# Altium integrated library Xilinx Virtex-II Pro FPGA.IntLib: 1045 symbols (part 4 of 8)
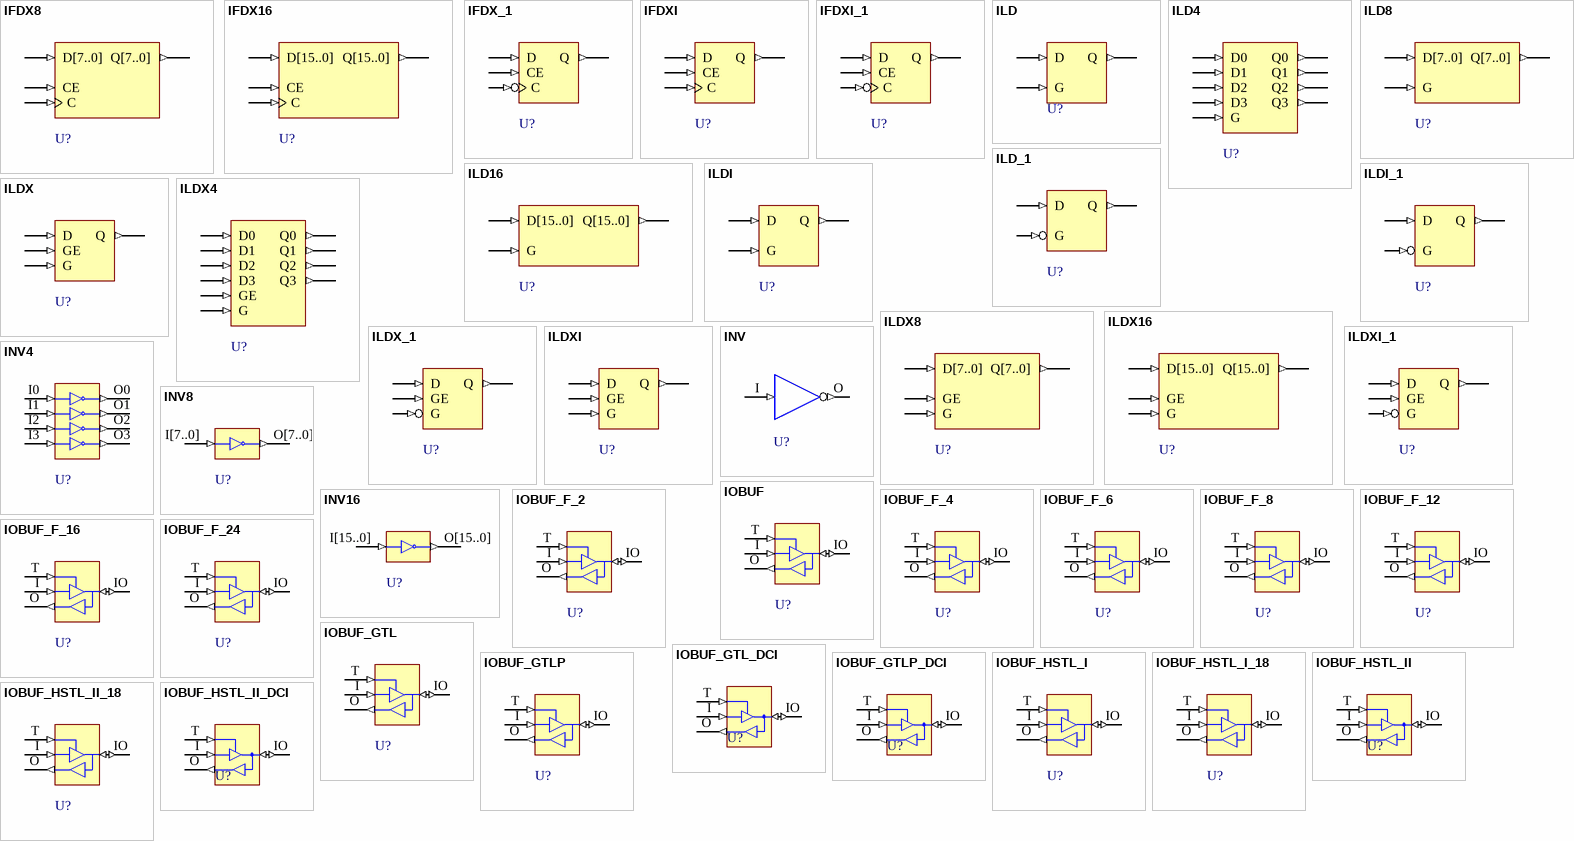
[diagram p38: symbols IFDX8 to IOBUF_HSTL_II_DCI]

## IFDXI_1
designator U?
Input D Flip-Flop with Inverted Clock and Clock Enable (Asynchronous Preset); FPGAVendor: Xilinx; Published: 15-Sep-2003; Publisher: Altium Limited; HelpURL: http://toolbox.xilinx.com/docsan/xilinx7/books/docs/lib/lib.pdf
pins: C (in), CE (in), D (in), Q (out)

## ILD
designator U?
Transparent Input Data Latch; FPGAVendor: Xilinx; Published: 15-Sep-2003; Publisher: Altium Limited; HelpURL: http://toolbox.xilinx.com/docsan/xilinx7/books/docs/lib/lib.pdf
pins: D (in), G (in), Q (out)

## ILD4
designator U?
Transparent Input Data Latch; FPGAVendor: Xilinx; Published: 15-Sep-2003; Publisher: Altium Limited; HelpURL: http://toolbox.xilinx.com/docsan/xilinx7/books/docs/lib/lib.pdf
pins: D0 (in), D1 (in), D2 (in), D3 (in), G (in), Q0 (out), Q1 (out), Q2 (out), Q3 (out)

## ILD8
designator U?
Transparent Input Data Latch; FPGAVendor: Xilinx; Published: 15-Sep-2003; Publisher: Altium Limited; HelpURL: http://toolbox.xilinx.com/docsan/xilinx7/books/docs/lib/lib.pdf
pins: D[7..0] (in), G (in), Q[7..0] (out)

## ILD16
designator U?
Transparent Input Data Latch; FPGAVendor: Xilinx; Published: 15-Sep-2003; Publisher: Altium Limited; HelpURL: http://toolbox.xilinx.com/docsan/xilinx7/books/docs/lib/lib.pdf
pins: D[15..0] (in), G (in), Q[15..0] (out)

## ILD_1
designator U?
Transparent Input Data Latch with Inverted Gate; FPGAVendor: Xilinx; Published: 15-Sep-2003; Publisher: Altium Limited; HelpURL: http://toolbox.xilinx.com/docsan/xilinx7/books/docs/lib/lib.pdf
pins: D (in), G (in), Q (out)

## ILDI
designator U?
Transparent Input Data Latch (Asynchronous Preset); FPGAVendor: Xilinx; Published: 15-Sep-2003; Publisher: Altium Limited; HelpURL: http://toolbox.xilinx.com/docsan/xilinx7/books/docs/lib/lib.pdf
pins: D (in), G (in), Q (out)

## ILDI_1
designator U?
Transparent Input Data Latch with Inverted Gate (Asynchronous Preset); FPGAVendor: Xilinx; Published: 15-Sep-2003; Publisher: Altium Limited; HelpURL: http://toolbox.xilinx.com/docsan/xilinx7/books/docs/lib/lib.pdf
pins: D (in), G (in), Q (out)

## ILDX
designator U?
Transparent Input Data Latch; FPGAVendor: Xilinx; Published: 15-Sep-2003; Publisher: Altium Limited; HelpURL: http://toolbox.xilinx.com/docsan/xilinx7/books/docs/lib/lib.pdf
pins: D (in), G (in), GE (in), Q (out)

## ILDX4
designator U?
Transparent Input Data Latch; FPGAVendor: Xilinx; Published: 15-Sep-2003; Publisher: Altium Limited; HelpURL: http://toolbox.xilinx.com/docsan/xilinx7/books/docs/lib/lib.pdf
pins: D0 (in), D1 (in), D2 (in), D3 (in), G (in), GE (in), Q0 (out), Q1 (out), Q2 (out), Q3 (out)

## ILDX8
designator U?
Transparent Input Data Latch; FPGAVendor: Xilinx; Published: 15-Sep-2003; Publisher: Altium Limited; HelpURL: http://toolbox.xilinx.com/docsan/xilinx7/books/docs/lib/lib.pdf
pins: D[7..0] (in), G (in), GE (in), Q[7..0] (out)

## ILDX16
designator U?
Transparent Input Data Latch; FPGAVendor: Xilinx; Published: 15-Sep-2003; Publisher: Altium Limited; HelpURL: http://toolbox.xilinx.com/docsan/xilinx7/books/docs/lib/lib.pdf
pins: D[15..0] (in), G (in), GE (in), Q[15..0] (out)

## ILDX_1
designator U?
Transparent Input Data Latch with Inverted Gate; FPGAVendor: Xilinx; Published: 15-Sep-2003; Publisher: Altium Limited; HelpURL: http://toolbox.xilinx.com/docsan/xilinx7/books/docs/lib/lib.pdf
pins: D (in), G (in), GE (in), Q (out)

## ILDXI
designator U?
Transparent Input Data Latch (Asynchronous Preset); FPGAVendor: Xilinx; Published: 15-Sep-2003; Publisher: Altium Limited; HelpURL: http://toolbox.xilinx.com/docsan/xilinx7/books/docs/lib/lib.pdf
pins: D (in), G (in), GE (in), Q (out)

## ILDXI_1
designator U?
Transparent Input Data Latch with Inverted Gate (Asynchronous Preset); FPGAVendor: Xilinx; Published: 15-Sep-2003; Publisher: Altium Limited; HelpURL: http://toolbox.xilinx.com/docsan/xilinx7/books/docs/lib/lib.pdf
pins: D (in), G (in), GE (in), Q (out)

## INV
designator U?
Inverter; FPGAVendor: Xilinx; Published: 15-Sep-2003; Publisher: Altium Limited; HelpURL: http://toolbox.xilinx.com/docsan/xilinx7/books/docs/lib/lib.pdf
pins: I (in), O (out)

## INV4
designator U?
4 x Inverters; FPGAVendor: Xilinx; Published: 15-Sep-2003; Publisher: Altium Limited; HelpURL: http://toolbox.xilinx.com/docsan/xilinx7/books/docs/lib/lib.pdf
pins: I0 (in), I1 (in), I2 (in), I3 (in), O0 (out), O1 (out), O2 (out), O3 (out)

## INV8
designator U?
8 x Inverters; FPGAVendor: Xilinx; Published: 15-Sep-2003; Publisher: Altium Limited; HelpURL: http://toolbox.xilinx.com/docsan/xilinx7/books/docs/lib/lib.pdf
pins: I[7..0] (in), O[7..0] (out)

## INV16
designator U?
16 x Inverters; FPGAVendor: Xilinx; Published: 15-Sep-2003; Publisher: Altium Limited; HelpURL: http://toolbox.xilinx.com/docsan/xilinx7/books/docs/lib/lib.pdf
pins: I[15..0] (in), O[15..0] (out)

## IOBUF
designator U?
Bi-Directional Buffer using the LVTTL standard; FPGAVendor: Xilinx; Published: 15-Sep-2003; Publisher: Altium Limited; HelpURL: http://toolbox.xilinx.com/docsan/xilinx7/books/docs/lib/lib.pdf
pins: I (in), IO (io), O (out), T (in)

## IOBUF_F_2
designator U?
Bi-Directional Buffer using the LVTTL standard; FPGAVendor: Xilinx; Published: 15-Sep-2003; Publisher: Altium Limited; HelpURL: http://toolbox.xilinx.com/docsan/xilinx7/books/docs/lib/lib.pdf
pins: I (in), IO (io), O (out), T (in)

## IOBUF_F_4
designator U?
Bi-Directional Buffer using the LVTTL standard; FPGAVendor: Xilinx; Published: 15-Sep-2003; Publisher: Altium Limited; HelpURL: http://toolbox.xilinx.com/docsan/xilinx7/books/docs/lib/lib.pdf
pins: I (in), IO (io), O (out), T (in)

## IOBUF_F_6
designator U?
Bi-Directional Buffer using the LVTTL standard; FPGAVendor: Xilinx; Published: 15-Sep-2003; Publisher: Altium Limited; HelpURL: http://toolbox.xilinx.com/docsan/xilinx7/books/docs/lib/lib.pdf
pins: I (in), IO (io), O (out), T (in)

## IOBUF_F_8
designator U?
Bi-Directional Buffer using the LVTTL standard; FPGAVendor: Xilinx; Published: 15-Sep-2003; Publisher: Altium Limited; HelpURL: http://toolbox.xilinx.com/docsan/xilinx7/books/docs/lib/lib.pdf
pins: I (in), IO (io), O (out), T (in)

## IOBUF_F_12
designator U?
Bi-Directional Buffer using the LVTTL standard; FPGAVendor: Xilinx; Published: 15-Sep-2003; Publisher: Altium Limited; HelpURL: http://toolbox.xilinx.com/docsan/xilinx7/books/docs/lib/lib.pdf
pins: I (in), IO (io), O (out), T (in)

## IOBUF_F_16
designator U?
Bi-Directional Buffer using the LVTTL standard; FPGAVendor: Xilinx; Published: 15-Sep-2003; Publisher: Altium Limited; HelpURL: http://toolbox.xilinx.com/docsan/xilinx7/books/docs/lib/lib.pdf
pins: I (in), IO (io), O (out), T (in)

## IOBUF_F_24
designator U?
Bi-Directional Buffer using the LVTTL standard; FPGAVendor: Xilinx; Published: 15-Sep-2003; Publisher: Altium Limited; HelpURL: http://toolbox.xilinx.com/docsan/xilinx7/books/docs/lib/lib.pdf
pins: I (in), IO (io), O (out), T (in)

## IOBUF_GTL
designator U?
Bi-Directional Buffer using the GTL standard; FPGAVendor: Xilinx; Published: 15-Sep-2003; Publisher: Altium Limited; HelpURL: http://toolbox.xilinx.com/docsan/xilinx7/books/docs/lib/lib.pdf
pins: I (in), IO (io), O (out), T (in)

## IOBUF_GTL_DCI
designator U?
Bi-directional Buffer with Gunning transceiver logic interface with on-chip Digital Controlled Impedance, Output VCCO = 1.2, Input VCCO = 1.2, VREF = 0.80; FPGAVendor: Xilinx; Published: 15-Sep-2003; Publisher: Altium Limited; HelpURL: http://toolbox.xilinx.com/docsan/xilinx7/books/docs/lib/lib.pdf
pins: I (in), IO (io), O (out), T (in)

## IOBUF_GTLP
designator U?
Bi-Directional Buffer using the GTL Plus standard; FPGAVendor: Xilinx; Published: 15-Sep-2003; Publisher: Altium Limited; HelpURL: http://toolbox.xilinx.com/docsan/xilinx7/books/docs/lib/lib.pdf
pins: I (in), IO (io), O (out), T (in)

## IOBUF_GTLP_DCI
designator U?
Bi-directional Buffer with Gunning transceiver logic interface with on-chip Digital Controlled Impedance, Output VCCO = 1.5, Input VCCO = 1.5, VREF = 1.00; FPGAVendor: Xilinx; Published: 15-Sep-2003; Publisher: Altium Limited; HelpURL: http://toolbox.xilinx.com/docsan/xilinx7/books/docs/lib/lib.pdf
pins: I (in), IO (io), O (out), T (in)

## IOBUF_HSTL_I
designator U?
Bi-Directional Buffer using the HSTL_I standard; FPGAVendor: Xilinx; Published: 15-Sep-2003; Publisher: Altium Limited; HelpURL: http://toolbox.xilinx.com/docsan/xilinx7/books/docs/lib/lib.pdf
pins: I (in), IO (io), O (out), T (in)

## IOBUF_HSTL_I_18
designator U?
Bi-Directional Buffer using the HSTL_I_18 Standard; FPGAVendor: Xilinx; Published: 15-Sep-2003; Publisher: Altium Limited; HelpURL: http://toolbox.xilinx.com/docsan/xilinx7/books/docs/lib/lib.pdf
pins: I (in), IO (io), O (out), T (in)

## IOBUF_HSTL_II
designator U?
Bi-directional Buffer with High Speed transceiver logic class II, Output VCCO = 1.5, VREF = 0.75; FPGAVendor: Xilinx; Published: 15-Sep-2003; Publisher: Altium Limited; HelpURL: http://toolbox.xilinx.com/docsan/xilinx7/books/docs/lib/lib.pdf
pins: I (in), IO (io), O (out), T (in)

## IOBUF_HSTL_II_18
designator U?
Bi-Directional Buffer using the HSTL_II_18 Standard; FPGAVendor: Xilinx; Published: 15-Sep-2003; Publisher: Altium Limited; HelpURL: http://toolbox.xilinx.com/docsan/xilinx7/books/docs/lib/lib.pdf
pins: I (in), IO (io), O (out), T (in)

## IOBUF_HSTL_II_DCI
designator U?
Bi-directional Buffer with High Speed transceiver logic class II, with on-chip Digital Controlled Impedance with Output VCCO = 1.5, Input VCCO = 1.5, VREF = 0.75; FPGAVendor: Xilinx; Published: 15-Sep-2003; Publisher: Altium Limited; HelpURL: http://toolbox.xilinx.com/docsan/xilinx7/books/docs/lib/lib.pdf
pins: I (in), IO (io), O (out), T (in)

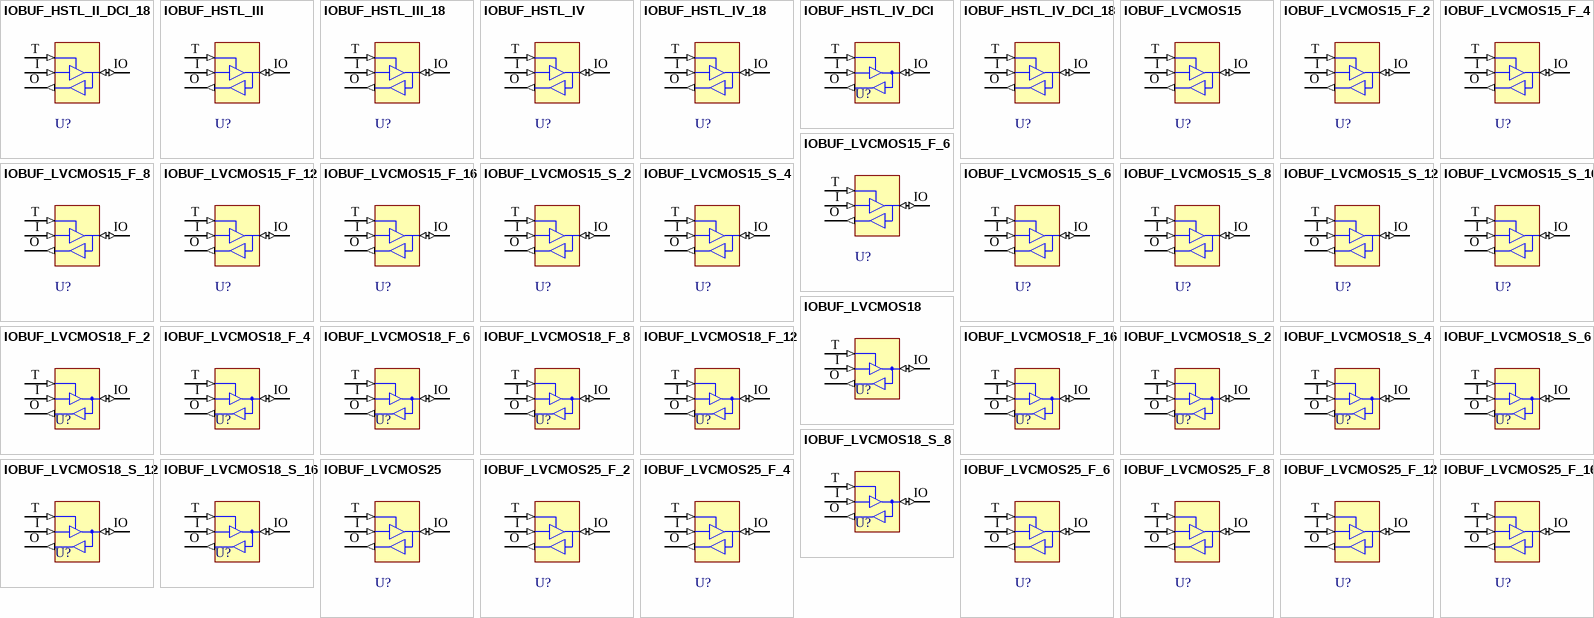
[diagram p18: symbols IOBUF_HSTL_II_DCI_18 to IOBUF_LVCMOS25_F_16]

## IOBUF_HSTL_II_DCI_18
designator U?
Bi-Directional Buffer using the HSTL_II_DCI_18 Standard; FPGAVendor: Xilinx; Published: 15-Sep-2003; Publisher: Altium Limited; HelpURL: http://toolbox.xilinx.com/docsan/xilinx7/books/docs/lib/lib.pdf
pins: I (in), IO (io), O (out), T (in)

## IOBUF_HSTL_III
designator U?
Bi-Directional Buffer using the HSTL_III standard; FPGAVendor: Xilinx; Published: 15-Sep-2003; Publisher: Altium Limited; HelpURL: http://toolbox.xilinx.com/docsan/xilinx7/books/docs/lib/lib.pdf
pins: I (in), IO (io), O (out), T (in)

## IOBUF_HSTL_III_18
designator U?
Bi-Directional Buffer using the HSTL_III_18 Standard; FPGAVendor: Xilinx; Published: 15-Sep-2003; Publisher: Altium Limited; HelpURL: http://toolbox.xilinx.com/docsan/xilinx7/books/docs/lib/lib.pdf
pins: I (in), IO (io), O (out), T (in)

## IOBUF_HSTL_IV
designator U?
Bi-Directional Buffer using the HSTL_IV standard; FPGAVendor: Xilinx; Published: 15-Sep-2003; Publisher: Altium Limited; HelpURL: http://toolbox.xilinx.com/docsan/xilinx7/books/docs/lib/lib.pdf
pins: I (in), IO (io), O (out), T (in)

## IOBUF_HSTL_IV_18
designator U?
Bi-Directional Buffer using the HSTL_IV_18 Standard; FPGAVendor: Xilinx; Published: 15-Sep-2003; Publisher: Altium Limited; HelpURL: http://toolbox.xilinx.com/docsan/xilinx7/books/docs/lib/lib.pdf
pins: I (in), IO (io), O (out), T (in)

## IOBUF_HSTL_IV_DCI
designator U?
Bi-directional Buffer with High Speed transceiver logic class IV, on-chip Digital Controlled Impedance, Output VCCO = 1.5, Input VCCO = 1.5, VREF = 0.90; FPGAVendor: Xilinx; Published: 15-Sep-2003; Publisher: Altium Limited; HelpURL: http://toolbox.xilinx.com/docsan/xilinx7/books/docs/lib/lib.pdf
pins: I (in), IO (io), O (out), T (in)

## IOBUF_HSTL_IV_DCI_18
designator U?
Bi-Directional Buffer using the HSTL_IV_DCI_18 Standard; FPGAVendor: Xilinx; Published: 15-Sep-2003; Publisher: Altium Limited; HelpURL: http://toolbox.xilinx.com/docsan/xilinx7/books/docs/lib/lib.pdf
pins: I (in), IO (io), O (out), T (in)

## IOBUF_LVCMOS15
designator U?
Bi-Directional Buffer using the LVCMOS15 Standard; FPGAVendor: Xilinx; Published: 15-Sep-2003; Publisher: Altium Limited; HelpURL: http://toolbox.xilinx.com/docsan/xilinx7/books/docs/lib/lib.pdf
pins: I (in), IO (io), O (out), T (in)

## IOBUF_LVCMOS15_F_2
designator U?
Bi-Directional Buffer using the LVCMOS15_F_2 Standard; FPGAVendor: Xilinx; Published: 15-Sep-2003; Publisher: Altium Limited; HelpURL: http://toolbox.xilinx.com/docsan/xilinx7/books/docs/lib/lib.pdf
pins: I (in), IO (io), O (out), T (in)

## IOBUF_LVCMOS15_F_4
designator U?
Bi-Directional Buffer using the LVCMOS15_F_4 Standard; FPGAVendor: Xilinx; Published: 15-Sep-2003; Publisher: Altium Limited; HelpURL: http://toolbox.xilinx.com/docsan/xilinx7/books/docs/lib/lib.pdf
pins: I (in), IO (io), O (out), T (in)

## IOBUF_LVCMOS15_F_6
designator U?
Bi-Directional Buffer using the LVCMOS15_F_6 Standard; FPGAVendor: Xilinx; Published: 15-Sep-2003; Publisher: Altium Limited; HelpURL: http://toolbox.xilinx.com/docsan/xilinx7/books/docs/lib/lib.pdf
pins: I (in), IO (io), O (out), T (in)

## IOBUF_LVCMOS15_F_8
designator U?
Bi-Directional Buffer using the LVCMOS15_F_8 Standard; FPGAVendor: Xilinx; Published: 15-Sep-2003; Publisher: Altium Limited; HelpURL: http://toolbox.xilinx.com/docsan/xilinx7/books/docs/lib/lib.pdf
pins: I (in), IO (io), O (out), T (in)

## IOBUF_LVCMOS15_F_12
designator U?
Bi-Directional Buffer using the LVCMOS15_F_12 Standard; FPGAVendor: Xilinx; Published: 15-Sep-2003; Publisher: Altium Limited; HelpURL: http://toolbox.xilinx.com/docsan/xilinx7/books/docs/lib/lib.pdf
pins: I (in), IO (io), O (out), T (in)

## IOBUF_LVCMOS15_F_16
designator U?
Bi-Directional Buffer using the LVCMOS15_F_16 Standard; FPGAVendor: Xilinx; Published: 15-Sep-2003; Publisher: Altium Limited; HelpURL: http://toolbox.xilinx.com/docsan/xilinx7/books/docs/lib/lib.pdf
pins: I (in), IO (io), O (out), T (in)

## IOBUF_LVCMOS15_S_2
designator U?
Bi-Directional Buffer using the LVCMOS15_S_2 Standard; FPGAVendor: Xilinx; Published: 15-Sep-2003; Publisher: Altium Limited; HelpURL: http://toolbox.xilinx.com/docsan/xilinx7/books/docs/lib/lib.pdf
pins: I (in), IO (io), O (out), T (in)

## IOBUF_LVCMOS15_S_4
designator U?
Bi-Directional Buffer using the LVCMOS15_S_4 Standard; FPGAVendor: Xilinx; Published: 15-Sep-2003; Publisher: Altium Limited; HelpURL: http://toolbox.xilinx.com/docsan/xilinx7/books/docs/lib/lib.pdf
pins: I (in), IO (io), O (out), T (in)

## IOBUF_LVCMOS15_S_6
designator U?
Bi-Directional Buffer using the LVCMOS15_S_6 Standard; FPGAVendor: Xilinx; Published: 15-Sep-2003; Publisher: Altium Limited; HelpURL: http://toolbox.xilinx.com/docsan/xilinx7/books/docs/lib/lib.pdf
pins: I (in), IO (io), O (out), T (in)

## IOBUF_LVCMOS15_S_8
designator U?
Bi-Directional Buffer using the LVCMOS15_S_8 Standard; FPGAVendor: Xilinx; Published: 15-Sep-2003; Publisher: Altium Limited; HelpURL: http://toolbox.xilinx.com/docsan/xilinx7/books/docs/lib/lib.pdf
pins: I (in), IO (io), O (out), T (in)

## IOBUF_LVCMOS15_S_12
designator U?
Bi-Directional Buffer using the LVCMOS15_S_12 Standard; FPGAVendor: Xilinx; Published: 15-Sep-2003; Publisher: Altium Limited; HelpURL: http://toolbox.xilinx.com/docsan/xilinx7/books/docs/lib/lib.pdf
pins: I (in), IO (io), O (out), T (in)

## IOBUF_LVCMOS15_S_16
designator U?
Bi-Directional Buffer using the LVCMOS15_S_16 Standard; FPGAVendor: Xilinx; Published: 15-Sep-2003; Publisher: Altium Limited; HelpURL: http://toolbox.xilinx.com/docsan/xilinx7/books/docs/lib/lib.pdf
pins: I (in), IO (io), O (out), T (in)

## IOBUF_LVCMOS18
designator U?
Bi-directional Buffer (LVCMOS) with input VCCO = 1.8 and output VCCO = 1.8; FPGAVendor: Xilinx; Published: 15-Sep-2003; Publisher: Altium Limited; HelpURL: http://toolbox.xilinx.com/docsan/xilinx7/books/docs/lib/lib.pdf
pins: I (in), IO (io), O (out), T (in)

## IOBUF_LVCMOS18_F_2
designator U?
Bi-directional Buffer (LVCMOS), that uses the LVTTL I/O-signaling standard, with a FAST slew and 2mA of drive power. (input VCCO = 1.8 and output VCCO = 1.8); FPGAVendor: Xilinx; Published: 15-Sep-2003; Publisher: Altium Limited; HelpURL: http://toolbox.xilinx.com/docsan/xilinx7/books/docs/lib/lib.pdf
pins: I (in), IO (io), O (out), T (in)

## IOBUF_LVCMOS18_F_4
designator U?
Bi-directional Buffer (LVCMOS), that uses the LVTTL I/O-signaling standard, with a FAST slew and 4mA of drive power. (input VCCO = 1.8 and output VCCO = 1.8); FPGAVendor: Xilinx; Published: 15-Sep-2003; Publisher: Altium Limited; HelpURL: http://toolbox.xilinx.com/docsan/xilinx7/books/docs/lib/lib.pdf
pins: I (in), IO (io), O (out), T (in)

## IOBUF_LVCMOS18_F_6
designator U?
Bi-directional Buffer (LVCMOS), that uses the LVTTL I/O-signaling standard, with a FAST slew and 6mA of drive power. (input VCCO = 1.8 and output VCCO = 1.8); FPGAVendor: Xilinx; Published: 15-Sep-2003; Publisher: Altium Limited; HelpURL: http://toolbox.xilinx.com/docsan/xilinx7/books/docs/lib/lib.pdf
pins: I (in), IO (io), O (out), T (in)

## IOBUF_LVCMOS18_F_8
designator U?
Bi-directional Buffer (LVCMOS), that uses the LVTTL I/O-signaling standard, with a FAST slew and 8mA of drive power. (input VCCO = 1.8 and output VCCO = 1.8); FPGAVendor: Xilinx; Published: 15-Sep-2003; Publisher: Altium Limited; HelpURL: http://toolbox.xilinx.com/docsan/xilinx7/books/docs/lib/lib.pdf
pins: I (in), IO (io), O (out), T (in)

## IOBUF_LVCMOS18_F_12
designator U?
Bi-directional Buffer (LVCMOS), that uses the LVTTL I/O-signaling standard, with a FAST slew and 12mA of drive power. (input VCCO = 1.8 and output VCCO = 1.8); FPGAVendor: Xilinx; Published: 15-Sep-2003; Publisher: Altium Limited; HelpURL: http://toolbox.xilinx.com/docsan/xilinx7/books/docs/lib/lib.pdf
pins: I (in), IO (io), O (out), T (in)

## IOBUF_LVCMOS18_F_16
designator U?
Bi-directional Buffer (LVCMOS), that uses the LVTTL I/O-signaling standard, with a FAST slew and 16mA of drive power. (input VCCO = 1.8 and output VCCO = 1.8); FPGAVendor: Xilinx; Published: 15-Sep-2003; Publisher: Altium Limited; HelpURL: http://toolbox.xilinx.com/docsan/xilinx7/books/docs/lib/lib.pdf
pins: I (in), IO (io), O (out), T (in)

## IOBUF_LVCMOS18_S_2
designator U?
Bi-directional Buffer (LVCMOS), that uses the LVTTL I/O-signaling standard, with a SLOW slew and 2mA of drive power. (input VCCO = 1.8 and output VCCO = 1.8); FPGAVendor: Xilinx; Published: 15-Sep-2003; Publisher: Altium Limited; HelpURL: http://toolbox.xilinx.com/docsan/xilinx7/books/docs/lib/lib.pdf
pins: I (in), IO (io), O (out), T (in)

## IOBUF_LVCMOS18_S_4
designator U?
Bi-directional Buffer (LVCMOS), that uses the LVTTL I/O-signaling standard, with a SLOW slew and 4mA of drive power. (input VCCO = 1.8 and output VCCO = 1.8); FPGAVendor: Xilinx; Published: 15-Sep-2003; Publisher: Altium Limited; HelpURL: http://toolbox.xilinx.com/docsan/xilinx7/books/docs/lib/lib.pdf
pins: I (in), IO (io), O (out), T (in)

## IOBUF_LVCMOS18_S_6
designator U?
Bi-directional Buffer (LVCMOS), that uses the LVTTL I/O-signaling standard, with a SLOW slew and 6mA of drive power. (input VCCO = 1.8 and output VCCO = 1.8); FPGAVendor: Xilinx; Published: 15-Sep-2003; Publisher: Altium Limited; HelpURL: http://toolbox.xilinx.com/docsan/xilinx7/books/docs/lib/lib.pdf
pins: I (in), IO (io), O (out), T (in)

## IOBUF_LVCMOS18_S_8
designator U?
Bi-directional Buffer (LVCMOS), that uses the LVTTL I/O-signaling standard, with a SLOW slew and 8mA of drive power. (input VCCO = 1.8 and output VCCO = 1.8); FPGAVendor: Xilinx; Published: 15-Sep-2003; Publisher: Altium Limited; HelpURL: http://toolbox.xilinx.com/docsan/xilinx7/books/docs/lib/lib.pdf
pins: I (in), IO (io), O (out), T (in)

## IOBUF_LVCMOS18_S_12
designator U?
Bi-directional Buffer (LVCMOS), that uses the LVTTL I/O-signaling standard, with a SLOW slew and 12mA of drive power. (input VCCO = 1.8 and output VCCO = 1.8); FPGAVendor: Xilinx; Published: 15-Sep-2003; Publisher: Altium Limited; HelpURL: http://toolbox.xilinx.com/docsan/xilinx7/books/docs/lib/lib.pdf
pins: I (in), IO (io), O (out), T (in)

## IOBUF_LVCMOS18_S_16
designator U?
Bi-directional Buffer (LVCMOS), that uses the LVTTL I/O-signaling standard, with a SLOW slew and 16mA of drive power. (input VCCO = 1.8 and output VCCO = 1.8); FPGAVendor: Xilinx; Published: 15-Sep-2003; Publisher: Altium Limited; HelpURL: http://toolbox.xilinx.com/docsan/xilinx7/books/docs/lib/lib.pdf
pins: I (in), IO (io), O (out), T (in)

## IOBUF_LVCMOS25
designator U?
Bi-Directional Buffer using the LVCMOS25 Standard; FPGAVendor: Xilinx; Published: 15-Sep-2003; Publisher: Altium Limited; HelpURL: http://toolbox.xilinx.com/docsan/xilinx7/books/docs/lib/lib.pdf
pins: I (in), IO (io), O (out), T (in)

## IOBUF_LVCMOS25_F_2
designator U?
Bi-Directional Buffer using the LVCMOS25_F_2 Standard; FPGAVendor: Xilinx; Published: 15-Sep-2003; Publisher: Altium Limited; HelpURL: http://toolbox.xilinx.com/docsan/xilinx7/books/docs/lib/lib.pdf
pins: I (in), IO (io), O (out), T (in)

## IOBUF_LVCMOS25_F_4
designator U?
Bi-Directional Buffer using the LVCMOS25_F_4 Standard; FPGAVendor: Xilinx; Published: 15-Sep-2003; Publisher: Altium Limited; HelpURL: http://toolbox.xilinx.com/docsan/xilinx7/books/docs/lib/lib.pdf
pins: I (in), IO (io), O (out), T (in)

## IOBUF_LVCMOS25_F_6
designator U?
Bi-Directional Buffer using the LVCMOS25_F_6 Standard; FPGAVendor: Xilinx; Published: 15-Sep-2003; Publisher: Altium Limited; HelpURL: http://toolbox.xilinx.com/docsan/xilinx7/books/docs/lib/lib.pdf
pins: I (in), IO (io), O (out), T (in)

## IOBUF_LVCMOS25_F_8
designator U?
Bi-Directional Buffer using the LVCMOS25_F_8 Standard; FPGAVendor: Xilinx; Published: 15-Sep-2003; Publisher: Altium Limited; HelpURL: http://toolbox.xilinx.com/docsan/xilinx7/books/docs/lib/lib.pdf
pins: I (in), IO (io), O (out), T (in)

## IOBUF_LVCMOS25_F_12
designator U?
Bi-Directional Buffer using the LVCMOS25_F_12 Standard; FPGAVendor: Xilinx; Published: 15-Sep-2003; Publisher: Altium Limited; HelpURL: http://toolbox.xilinx.com/docsan/xilinx7/books/docs/lib/lib.pdf
pins: I (in), IO (io), O (out), T (in)

## IOBUF_LVCMOS25_F_16
designator U?
Bi-Directional Buffer using the LVCMOS25_F_16 Standard; FPGAVendor: Xilinx; Published: 15-Sep-2003; Publisher: Altium Limited; HelpURL: http://toolbox.xilinx.com/docsan/xilinx7/books/docs/lib/lib.pdf
pins: I (in), IO (io), O (out), T (in)

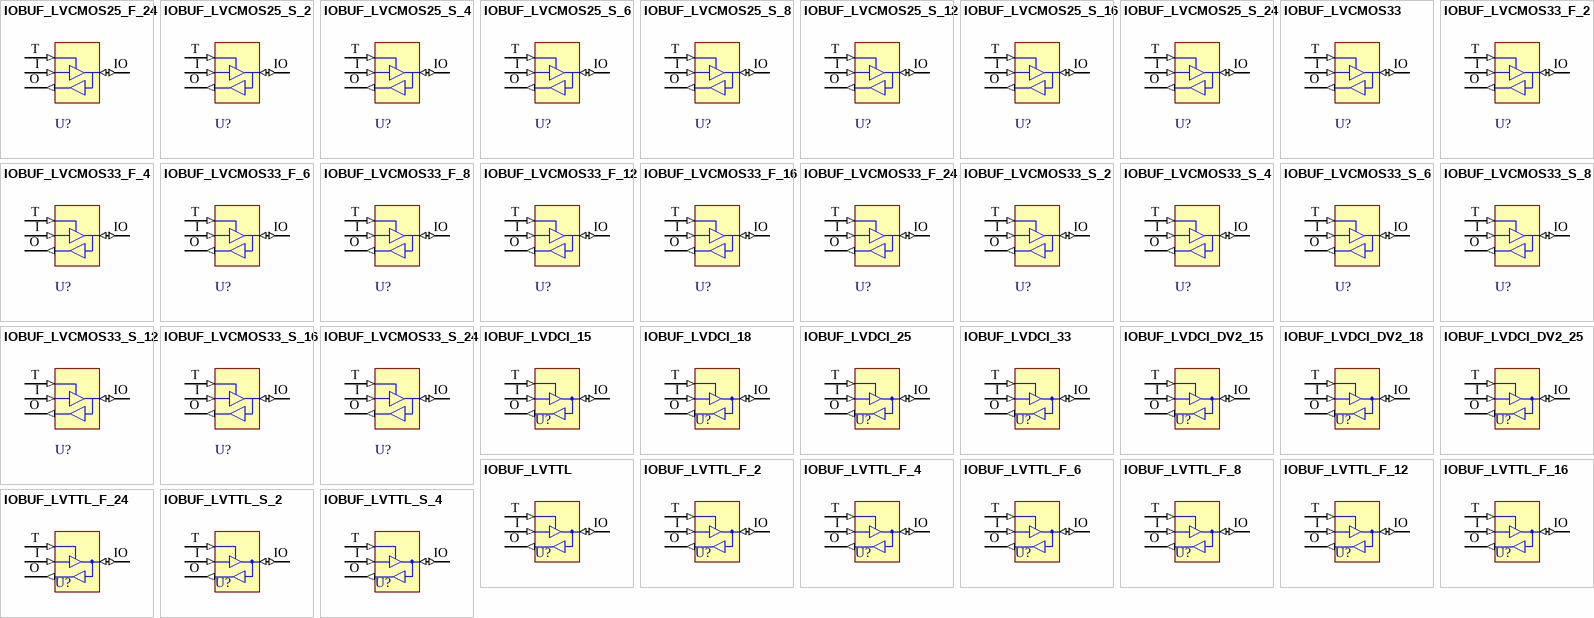
[diagram p19: symbols IOBUF_LVCMOS25_F_24 to IOBUF_LVTTL_S_4]

## IOBUF_LVCMOS25_F_24
designator U?
Bi-Directional Buffer using the LVCMOS25_F_24 Standard; FPGAVendor: Xilinx; Published: 15-Sep-2003; Publisher: Altium Limited; HelpURL: http://toolbox.xilinx.com/docsan/xilinx7/books/docs/lib/lib.pdf
pins: I (in), IO (io), O (out), T (in)

## IOBUF_LVCMOS25_S_2
designator U?
Bi-Directional Buffer using the LVCMOS25_S_2 Standard; FPGAVendor: Xilinx; Published: 15-Sep-2003; Publisher: Altium Limited; HelpURL: http://toolbox.xilinx.com/docsan/xilinx7/books/docs/lib/lib.pdf
pins: I (in), IO (io), O (out), T (in)

## IOBUF_LVCMOS25_S_4
designator U?
Bi-Directional Buffer using the LVCMOS25_S_4 Standard; FPGAVendor: Xilinx; Published: 15-Sep-2003; Publisher: Altium Limited; HelpURL: http://toolbox.xilinx.com/docsan/xilinx7/books/docs/lib/lib.pdf
pins: I (in), IO (io), O (out), T (in)

## IOBUF_LVCMOS25_S_6
designator U?
Bi-Directional Buffer using the LVCMOS25_S_6 Standard; FPGAVendor: Xilinx; Published: 15-Sep-2003; Publisher: Altium Limited; HelpURL: http://toolbox.xilinx.com/docsan/xilinx7/books/docs/lib/lib.pdf
pins: I (in), IO (io), O (out), T (in)

## IOBUF_LVCMOS25_S_8
designator U?
Bi-Directional Buffer using the LVCMOS25_S_8 Standard; FPGAVendor: Xilinx; Published: 15-Sep-2003; Publisher: Altium Limited; HelpURL: http://toolbox.xilinx.com/docsan/xilinx7/books/docs/lib/lib.pdf
pins: I (in), IO (io), O (out), T (in)

## IOBUF_LVCMOS25_S_12
designator U?
Bi-Directional Buffer using the LVCMOS25_S_12 Standard; FPGAVendor: Xilinx; Published: 15-Sep-2003; Publisher: Altium Limited; HelpURL: http://toolbox.xilinx.com/docsan/xilinx7/books/docs/lib/lib.pdf
pins: I (in), IO (io), O (out), T (in)

## IOBUF_LVCMOS25_S_16
designator U?
Bi-Directional Buffer using the LVCMOS25_S_16 Standard; FPGAVendor: Xilinx; Published: 15-Sep-2003; Publisher: Altium Limited; HelpURL: http://toolbox.xilinx.com/docsan/xilinx7/books/docs/lib/lib.pdf
pins: I (in), IO (io), O (out), T (in)

## IOBUF_LVCMOS25_S_24
designator U?
Bi-Directional Buffer using the LVCMOS25_S_24 Standard; FPGAVendor: Xilinx; Published: 15-Sep-2003; Publisher: Altium Limited; HelpURL: http://toolbox.xilinx.com/docsan/xilinx7/books/docs/lib/lib.pdf
pins: I (in), IO (io), O (out), T (in)

## IOBUF_LVCMOS33
designator U?
Bi-Directional Buffer using the LVCMOS33 Standard; FPGAVendor: Xilinx; Published: 15-Sep-2003; Publisher: Altium Limited; HelpURL: http://toolbox.xilinx.com/docsan/xilinx7/books/docs/lib/lib.pdf
pins: I (in), IO (io), O (out), T (in)

## IOBUF_LVCMOS33_F_2
designator U?
Bi-Directional Buffer using the LVCMOS33_F_2 Standard; FPGAVendor: Xilinx; Published: 15-Sep-2003; Publisher: Altium Limited; HelpURL: http://toolbox.xilinx.com/docsan/xilinx7/books/docs/lib/lib.pdf
pins: I (in), IO (io), O (out), T (in)

## IOBUF_LVCMOS33_F_4
designator U?
Bi-Directional Buffer using the LVCMOS33_F_4 Standard; FPGAVendor: Xilinx; Published: 15-Sep-2003; Publisher: Altium Limited; HelpURL: http://toolbox.xilinx.com/docsan/xilinx7/books/docs/lib/lib.pdf
pins: I (in), IO (io), O (out), T (in)

## IOBUF_LVCMOS33_F_6
designator U?
Bi-Directional Buffer using the LVCMOS33_F_6 Standard; FPGAVendor: Xilinx; Published: 15-Sep-2003; Publisher: Altium Limited; HelpURL: http://toolbox.xilinx.com/docsan/xilinx7/books/docs/lib/lib.pdf
pins: I (in), IO (io), O (out), T (in)

## IOBUF_LVCMOS33_F_8
designator U?
Bi-Directional Buffer using the LVCMOS33_F_8 Standard; FPGAVendor: Xilinx; Published: 15-Sep-2003; Publisher: Altium Limited; HelpURL: http://toolbox.xilinx.com/docsan/xilinx7/books/docs/lib/lib.pdf
pins: I (in), IO (io), O (out), T (in)

## IOBUF_LVCMOS33_F_12
designator U?
Bi-Directional Buffer using the LVCMOS33_F_12 Standard; FPGAVendor: Xilinx; Published: 15-Sep-2003; Publisher: Altium Limited; HelpURL: http://toolbox.xilinx.com/docsan/xilinx7/books/docs/lib/lib.pdf
pins: I (in), IO (io), O (out), T (in)

## IOBUF_LVCMOS33_F_16
designator U?
Bi-Directional Buffer using the LVCMOS33_F_16 Standard; FPGAVendor: Xilinx; Published: 15-Sep-2003; Publisher: Altium Limited; HelpURL: http://toolbox.xilinx.com/docsan/xilinx7/books/docs/lib/lib.pdf
pins: I (in), IO (io), O (out), T (in)

## IOBUF_LVCMOS33_F_24
designator U?
Bi-Directional Buffer using the LVCMOS33_F_24 Standard; FPGAVendor: Xilinx; Published: 15-Sep-2003; Publisher: Altium Limited; HelpURL: http://toolbox.xilinx.com/docsan/xilinx7/books/docs/lib/lib.pdf
pins: I (in), IO (io), O (out), T (in)

## IOBUF_LVCMOS33_S_2
designator U?
Bi-Directional Buffer using the LVCMOS33_S_2 Standard; FPGAVendor: Xilinx; Published: 15-Sep-2003; Publisher: Altium Limited; HelpURL: http://toolbox.xilinx.com/docsan/xilinx7/books/docs/lib/lib.pdf
pins: I (in), IO (io), O (out), T (in)

## IOBUF_LVCMOS33_S_4
designator U?
Bi-Directional Buffer using the LVCMOS33_S_4 Standard; FPGAVendor: Xilinx; Published: 15-Sep-2003; Publisher: Altium Limited; HelpURL: http://toolbox.xilinx.com/docsan/xilinx7/books/docs/lib/lib.pdf
pins: I (in), IO (io), O (out), T (in)

## IOBUF_LVCMOS33_S_6
designator U?
Bi-Directional Buffer using the LVCMOS33_S_6 Standard; FPGAVendor: Xilinx; Published: 15-Sep-2003; Publisher: Altium Limited; HelpURL: http://toolbox.xilinx.com/docsan/xilinx7/books/docs/lib/lib.pdf
pins: I (in), IO (io), O (out), T (in)

## IOBUF_LVCMOS33_S_8
designator U?
Bi-Directional Buffer using the LVCMOS33_S_8 Standard; FPGAVendor: Xilinx; Published: 15-Sep-2003; Publisher: Altium Limited; HelpURL: http://toolbox.xilinx.com/docsan/xilinx7/books/docs/lib/lib.pdf
pins: I (in), IO (io), O (out), T (in)

## IOBUF_LVCMOS33_S_12
designator U?
Bi-Directional Buffer using the LVCMOS33_S_12 Standard; FPGAVendor: Xilinx; Published: 15-Sep-2003; Publisher: Altium Limited; HelpURL: http://toolbox.xilinx.com/docsan/xilinx7/books/docs/lib/lib.pdf
pins: I (in), IO (io), O (out), T (in)

## IOBUF_LVCMOS33_S_16
designator U?
Bi-Directional Buffer using the LVCMOS33_S_16 Standard; FPGAVendor: Xilinx; Published: 15-Sep-2003; Publisher: Altium Limited; HelpURL: http://toolbox.xilinx.com/docsan/xilinx7/books/docs/lib/lib.pdf
pins: I (in), IO (io), O (out), T (in)

## IOBUF_LVCMOS33_S_24
designator U?
Bi-Directional Buffer using the LVCMOS33_S_24 Standard; FPGAVendor: Xilinx; Published: 15-Sep-2003; Publisher: Altium Limited; HelpURL: http://toolbox.xilinx.com/docsan/xilinx7/books/docs/lib/lib.pdf
pins: I (in), IO (io), O (out), T (in)

## IOBUF_LVDCI_15
designator U?
Bi-directional Buffer (LVCMOS) with output VCCO = 1.5, and with on-chip Digital Controlled Impedance; FPGAVendor: Xilinx; Published: 15-Sep-2003; Publisher: Altium Limited; HelpURL: http://toolbox.xilinx.com/docsan/xilinx7/books/docs/lib/lib.pdf
pins: I (in), IO (io), O (out), T (in)

## IOBUF_LVDCI_18
designator U?
Bi-directional Buffer (LVCMOS) with output VCCO = 1.8, and with on-chip Digital Controlled Impedance; FPGAVendor: Xilinx; Published: 15-Sep-2003; Publisher: Altium Limited; HelpURL: http://toolbox.xilinx.com/docsan/xilinx7/books/docs/lib/lib.pdf
pins: I (in), IO (io), O (out), T (in)

## IOBUF_LVDCI_25
designator U?
Bi-directional Buffer (LVCMOS) with output VCCO = 2.5, and with on-chip Digital Controlled Impedance; FPGAVendor: Xilinx; Published: 15-Sep-2003; Publisher: Altium Limited; HelpURL: http://toolbox.xilinx.com/docsan/xilinx7/books/docs/lib/lib.pdf
pins: I (in), IO (io), O (out), T (in)

## IOBUF_LVDCI_33
designator U?
Bi-directional Buffer (LVCMOS) with output VCCO = 3.3, and with on-chip Digital Controlled Impedance; FPGAVendor: Xilinx; Published: 15-Sep-2003; Publisher: Altium Limited; HelpURL: http://toolbox.xilinx.com/docsan/xilinx7/books/docs/lib/lib.pdf
pins: I (in), IO (io), O (out), T (in)

## IOBUF_LVDCI_DV2_15
designator U?
Bi-directional Buffer (LVCMOS) with output VCCO = 1.5, and with on-chip Digital Controlled Impedance; FPGAVendor: Xilinx; Published: 15-Sep-2003; Publisher: Altium Limited; HelpURL: http://toolbox.xilinx.com/docsan/xilinx7/books/docs/lib/lib.pdf
pins: I (in), IO (io), O (out), T (in)

## IOBUF_LVDCI_DV2_18
designator U?
Bi-directional Buffer (LVCMOS) with output VCCO = 1.8, and with on-chip Digital Controlled Impedance; FPGAVendor: Xilinx; Published: 15-Sep-2003; Publisher: Altium Limited; HelpURL: http://toolbox.xilinx.com/docsan/xilinx7/books/docs/lib/lib.pdf
pins: I (in), IO (io), O (out), T (in)

## IOBUF_LVDCI_DV2_25
designator U?
Bi-directional Buffer (LVCMOS) with output VCCO = 2.5, and with on-chip Digital Controlled Impedance; FPGAVendor: Xilinx; Published: 15-Sep-2003; Publisher: Altium Limited; HelpURL: http://toolbox.xilinx.com/docsan/xilinx7/books/docs/lib/lib.pdf
pins: I (in), IO (io), O (out), T (in)

## IOBUF_LVTTL
designator U?
Bi-directional Buffer with Low voltage transistor-transistor logic with input VCCO = 3.3 and output VCCO = 3.3; FPGAVendor: Xilinx; Published: 15-Sep-2003; Publisher: Altium Limited; HelpURL: http://toolbox.xilinx.com/docsan/xilinx7/books/docs/lib/lib.pdf
pins: I (in), IO (io), O (out), T (in)

## IOBUF_LVTTL_F_2
designator U?
Bi-Directional Buffer (TTL) with a FAST slew and 2mA of drive power. (input VCCO = 3.3 and output VCCO = 3.3); FPGAVendor: Xilinx; Published: 15-Sep-2003; Publisher: Altium Limited; HelpURL: http://toolbox.xilinx.com/docsan/xilinx7/books/docs/lib/lib.pdf
pins: I (in), IO (io), O (out), T (in)

## IOBUF_LVTTL_F_4
designator U?
Bi-Directional Buffer (TTL) with a FAST slew and 4mA of drive power. (input VCCO = 3.3 and output VCCO = 3.3); FPGAVendor: Xilinx; Published: 15-Sep-2003; Publisher: Altium Limited; HelpURL: http://toolbox.xilinx.com/docsan/xilinx7/books/docs/lib/lib.pdf
pins: I (in), IO (io), O (out), T (in)

## IOBUF_LVTTL_F_6
designator U?
Bi-Directional Buffer (TTL) with a FAST slew and 6mA of drive power. (input VCCO = 3.3 and output VCCO = 3.3); FPGAVendor: Xilinx; Published: 15-Sep-2003; Publisher: Altium Limited; HelpURL: http://toolbox.xilinx.com/docsan/xilinx7/books/docs/lib/lib.pdf
pins: I (in), IO (io), O (out), T (in)

## IOBUF_LVTTL_F_8
designator U?
Bi-Directional Buffer (TTL) with a FAST slew and 8mA of drive power. (input VCCO = 3.3 and output VCCO = 3.3); FPGAVendor: Xilinx; Published: 15-Sep-2003; Publisher: Altium Limited; HelpURL: http://toolbox.xilinx.com/docsan/xilinx7/books/docs/lib/lib.pdf
pins: I (in), IO (io), O (out), T (in)

## IOBUF_LVTTL_F_12
designator U?
Bi-Directional Buffer (TTL) with a FAST slew and 12mA of drive power. (input VCCO = 3.3 and output VCCO = 3.3); FPGAVendor: Xilinx; Published: 15-Sep-2003; Publisher: Altium Limited; HelpURL: http://toolbox.xilinx.com/docsan/xilinx7/books/docs/lib/lib.pdf
pins: I (in), IO (io), O (out), T (in)

## IOBUF_LVTTL_F_16
designator U?
Bi-Directional Buffer (TTL) with a FAST slew and 16mA of drive power. (input VCCO = 3.3 and output VCCO = 3.3); FPGAVendor: Xilinx; Published: 15-Sep-2003; Publisher: Altium Limited; HelpURL: http://toolbox.xilinx.com/docsan/xilinx7/books/docs/lib/lib.pdf
pins: I (in), IO (io), O (out), T (in)

## IOBUF_LVTTL_F_24
designator U?
Bi-Directional Buffer (TTL) with a FAST slew and 24mA of drive power. (input VCCO = 3.3 and output VCCO = 3.3); FPGAVendor: Xilinx; Published: 15-Sep-2003; Publisher: Altium Limited; HelpURL: http://toolbox.xilinx.com/docsan/xilinx7/books/docs/lib/lib.pdf
pins: I (in), IO (io), O (out), T (in)

## IOBUF_LVTTL_S_2
designator U?
Bi-Directional Buffer (TTL) with a SLOW slew and 2mA of drive power. (input VCCO = 3.3 and output VCCO = 3.3); FPGAVendor: Xilinx; Published: 15-Sep-2003; Publisher: Altium Limited; HelpURL: http://toolbox.xilinx.com/docsan/xilinx7/books/docs/lib/lib.pdf
pins: I (in), IO (io), O (out), T (in)

## IOBUF_LVTTL_S_4
designator U?
Bi-Directional Buffer (TTL) with a SLOW slew and 4mA of drive power. (input VCCO = 3.3 and output VCCO = 3.3); FPGAVendor: Xilinx; Published: 15-Sep-2003; Publisher: Altium Limited; HelpURL: http://toolbox.xilinx.com/docsan/xilinx7/books/docs/lib/lib.pdf
pins: I (in), IO (io), O (out), T (in)

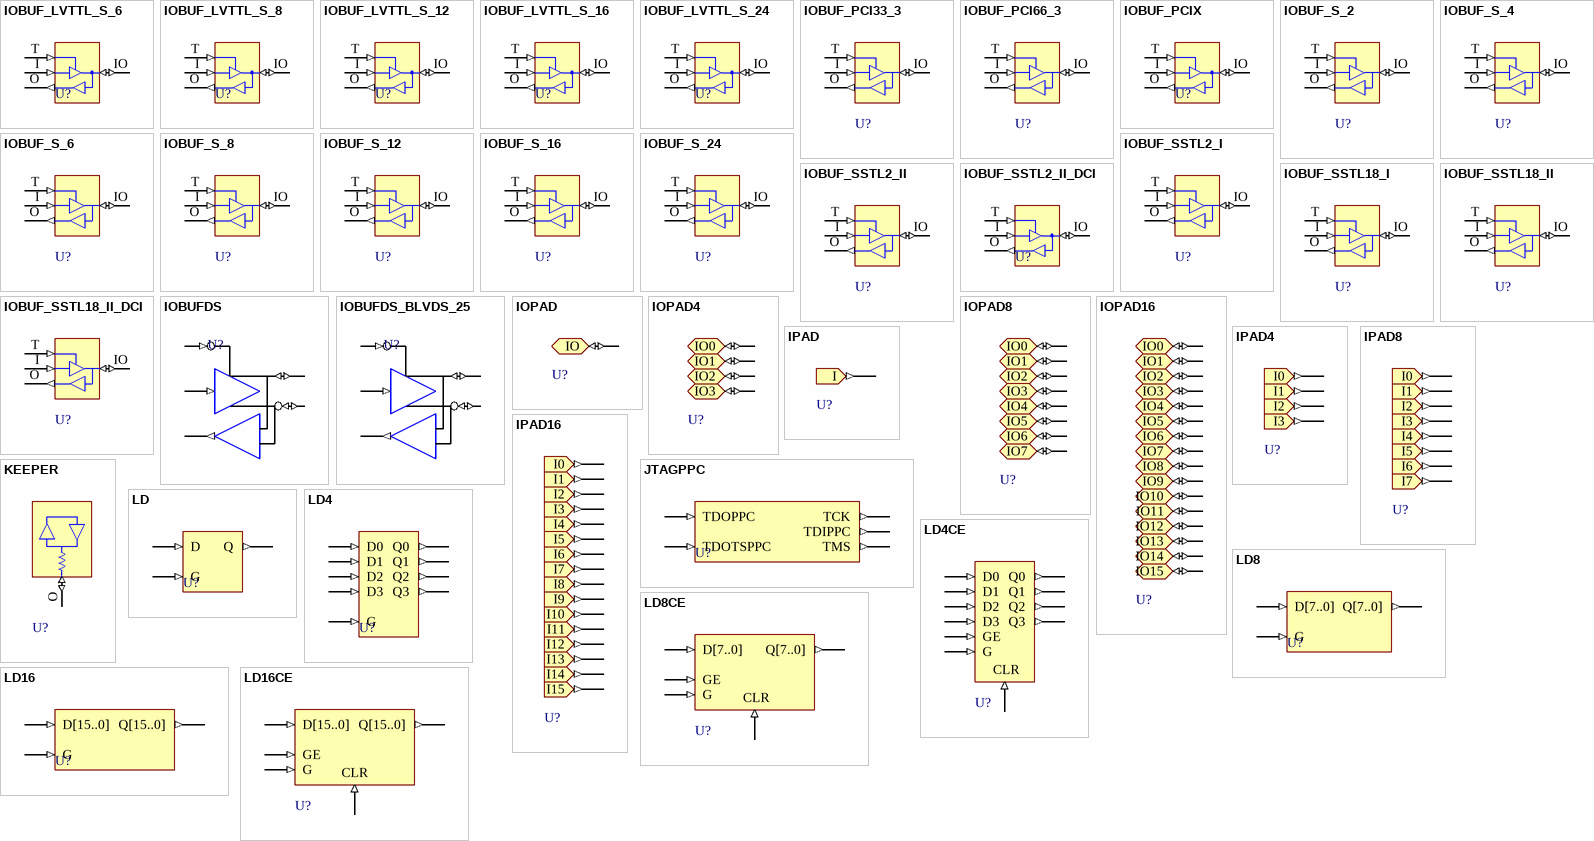
[diagram p20: symbols IOBUF_LVTTL_S_6 to LD16CE]

## IOBUF_LVTTL_S_6
designator U?
Bi-Directional Buffer (TTL) with a SLOW slew and 6mA of drive power. (input VCCO = 3.3 and output VCCO = 3.3); FPGAVendor: Xilinx; Published: 15-Sep-2003; Publisher: Altium Limited; HelpURL: http://toolbox.xilinx.com/docsan/xilinx7/books/docs/lib/lib.pdf
pins: I (in), IO (io), O (out), T (in)

## IOBUF_LVTTL_S_8
designator U?
Bi-Directional Buffer (TTL) with a SLOW slew and 8mA of drive power. (input VCCO = 3.3 and output VCCO = 3.3); FPGAVendor: Xilinx; Published: 15-Sep-2003; Publisher: Altium Limited; HelpURL: http://toolbox.xilinx.com/docsan/xilinx7/books/docs/lib/lib.pdf
pins: I (in), IO (io), O (out), T (in)

## IOBUF_LVTTL_S_12
designator U?
Bi-Directional Buffer (TTL) with a SLOW slew and 12mA of drive power. (input VCCO = 3.3 and output VCCO = 3.3); FPGAVendor: Xilinx; Published: 15-Sep-2003; Publisher: Altium Limited; HelpURL: http://toolbox.xilinx.com/docsan/xilinx7/books/docs/lib/lib.pdf
pins: I (in), IO (io), O (out), T (in)

## IOBUF_LVTTL_S_16
designator U?
Bi-Directional Buffer (TTL) with a SLOW slew and 16mA of drive power. (input VCCO = 3.3 and output VCCO = 3.3); FPGAVendor: Xilinx; Published: 15-Sep-2003; Publisher: Altium Limited; HelpURL: http://toolbox.xilinx.com/docsan/xilinx7/books/docs/lib/lib.pdf
pins: I (in), IO (io), O (out), T (in)

## IOBUF_LVTTL_S_24
designator U?
Bi-Directional Buffer (TTL) with a SLOW slew and 24mA of drive power. (input VCCO = 3.3 and output VCCO = 3.3); FPGAVendor: Xilinx; Published: 15-Sep-2003; Publisher: Altium Limited; HelpURL: http://toolbox.xilinx.com/docsan/xilinx7/books/docs/lib/lib.pdf
pins: I (in), IO (io), O (out), T (in)

## IOBUF_PCI33_3
designator U?
Bi-Directional Buffer using the PCI33_3 standard; FPGAVendor: Xilinx; Published: 15-Sep-2003; Publisher: Altium Limited; HelpURL: http://toolbox.xilinx.com/docsan/xilinx7/books/docs/lib/lib.pdf
pins: I (in), IO (io), O (out), T (in)

## IOBUF_PCI66_3
designator U?
Bi-Directional Buffer using the PCI66_3 standard; FPGAVendor: Xilinx; Published: 15-Sep-2003; Publisher: Altium Limited; HelpURL: http://toolbox.xilinx.com/docsan/xilinx7/books/docs/lib/lib.pdf
pins: I (in), IO (io), O (out), T (in)

## IOBUF_PCIX
designator U?
Bi-Directional Buffer with Peripheral component interface, Input VCCO = 3.3, Output VCCO = 3.3; FPGAVendor: Xilinx; Published: 15-Sep-2003; Publisher: Altium Limited; HelpURL: http://toolbox.xilinx.com/docsan/xilinx7/books/docs/lib/lib.pdf
pins: I (in), IO (io), O (out), T (in)

## IOBUF_S_2
designator U?
Bi-Directional Buffer using the LVTTL standard; FPGAVendor: Xilinx; Published: 15-Sep-2003; Publisher: Altium Limited; HelpURL: http://toolbox.xilinx.com/docsan/xilinx7/books/docs/lib/lib.pdf
pins: I (in), IO (io), O (out), T (in)

## IOBUF_S_4
designator U?
Bi-Directional Buffer using the LVTTL standard; FPGAVendor: Xilinx; Published: 15-Sep-2003; Publisher: Altium Limited; HelpURL: http://toolbox.xilinx.com/docsan/xilinx7/books/docs/lib/lib.pdf
pins: I (in), IO (io), O (out), T (in)

## IOBUF_S_6
designator U?
Bi-Directional Buffer using the LVTTL standard; FPGAVendor: Xilinx; Published: 15-Sep-2003; Publisher: Altium Limited; HelpURL: http://toolbox.xilinx.com/docsan/xilinx7/books/docs/lib/lib.pdf
pins: I (in), IO (io), O (out), T (in)

## IOBUF_S_8
designator U?
Bi-Directional Buffer using the LVTTL standard; FPGAVendor: Xilinx; Published: 15-Sep-2003; Publisher: Altium Limited; HelpURL: http://toolbox.xilinx.com/docsan/xilinx7/books/docs/lib/lib.pdf
pins: I (in), IO (io), O (out), T (in)

## IOBUF_S_12
designator U?
Bi-Directional Buffer using the LVTTL standard; FPGAVendor: Xilinx; Published: 15-Sep-2003; Publisher: Altium Limited; HelpURL: http://toolbox.xilinx.com/docsan/xilinx7/books/docs/lib/lib.pdf
pins: I (in), IO (io), O (out), T (in)

## IOBUF_S_16
designator U?
Bi-Directional Buffer using the LVTTL standard; FPGAVendor: Xilinx; Published: 15-Sep-2003; Publisher: Altium Limited; HelpURL: http://toolbox.xilinx.com/docsan/xilinx7/books/docs/lib/lib.pdf
pins: I (in), IO (io), O (out), T (in)

## IOBUF_S_24
designator U?
Bi-Directional Buffer using the LVTTL standard; FPGAVendor: Xilinx; Published: 15-Sep-2003; Publisher: Altium Limited; HelpURL: http://toolbox.xilinx.com/docsan/xilinx7/books/docs/lib/lib.pdf
pins: I (in), IO (io), O (out), T (in)

## IOBUF_SSTL2_I
designator U?
Bi-Directional Buffer using the SSTL2_I standard; FPGAVendor: Xilinx; Published: 15-Sep-2003; Publisher: Altium Limited; HelpURL: http://toolbox.xilinx.com/docsan/xilinx7/books/docs/lib/lib.pdf
pins: I (in), IO (io), O (out), T (in)

## IOBUF_SSTL2_II
designator U?
Bi-Directional Buffer using the SSTL2_II standard; FPGAVendor: Xilinx; Published: 15-Sep-2003; Publisher: Altium Limited; HelpURL: http://toolbox.xilinx.com/docsan/xilinx7/books/docs/lib/lib.pdf
pins: I (in), IO (io), O (out), T (in)

## IOBUF_SSTL2_II_DCI
designator U?
Bi-Directional Buffer with Stub-series terminated logic interface for SDRAM, on-chip Digital Controlled Impedance, Output VCCO = 2.5, Input VCCO = 2.5, VREF = 1.25; FPGAVendor: Xilinx; Published: 15-Sep-2003; Publisher: Altium Limited; HelpURL: http://toolbox.xilinx.com/docsan/xilinx7/books/docs/lib/lib.pdf
pins: I (in), IO (io), O (out), T (in)

## IOBUF_SSTL18_I
designator U?
Bi-Directional Buffer with SSTL18_I I/O Interface; FPGAVendor: Xilinx; Published: 15-Sep-2003; Publisher: Altium Limited; HelpURL: http://toolbox.xilinx.com/docsan/xilinx7/books/docs/lib/lib.pdf
pins: I (in), IO (io), O (out), T (in)

## IOBUF_SSTL18_II
designator U?
Bi-Directional Buffer with SSTL18_II I/O Interface; FPGAVendor: Xilinx; Published: 15-Sep-2003; Publisher: Altium Limited; HelpURL: http://toolbox.xilinx.com/docsan/xilinx7/books/docs/lib/lib.pdf
pins: I (in), IO (io), O (out), T (in)

## IOBUF_SSTL18_II_DCI
designator U?
Bi-Directional Buffer with SSTL18_II_DCI I/O Interface; FPGAVendor: Xilinx; Published: 15-Sep-2003; Publisher: Altium Limited; HelpURL: http://toolbox.xilinx.com/docsan/xilinx7/books/docs/lib/lib.pdf
pins: I (in), IO (io), O (out), T (in)

## IOBUFDS
designator U?
3-State Differential Signaling I/O Buffer with Active Low Output Enable; FPGAVendor: Xilinx; Published: 15-Sep-2003; Publisher: Altium Limited; HelpURL: http://toolbox.xilinx.com/docsan/xilinx82/books/docs/v5lsc/v5lsc.pdf
pins: I (in), IO (io), IOB (io), O (out), T (in)

## IOBUFDS_BLVDS_25
designator U?
3-State Differential Signaling I/O Buffer with Active Low Output Enable; FPGAVendor: Xilinx; Published: 15-Sep-2003; Publisher: Altium Limited; HelpURL: http://toolbox.xilinx.com/docsan/xilinx7/books/docs/lib/lib.pdf
pins: I (in), IO (io), IOB (io), O (out), T (in)

## IOPAD
designator U?
Single-Input/Output Pad; FPGAVendor: Xilinx; Published: 15-Sep-2003; Publisher: Altium Limited; HelpURL: http://toolbox.xilinx.com/docsan/xilinx7/books/docs/lib/lib.pdf
pins: IO (io)

## IOPAD4
designator U?
Multiple-Input/Output Pads; FPGAVendor: Xilinx; Published: 15-Sep-2003; Publisher: Altium Limited; HelpURL: http://toolbox.xilinx.com/docsan/xilinx7/books/docs/lib/lib.pdf
pins: IO0 (io), IO1 (io), IO2 (io), IO3 (io)

## IOPAD8
designator U?
Multiple-Input/Output Pads; FPGAVendor: Xilinx; Published: 15-Sep-2003; Publisher: Altium Limited; HelpURL: http://toolbox.xilinx.com/docsan/xilinx7/books/docs/lib/lib.pdf
pins: IO0 (io), IO1 (io), IO2 (io), IO3 (io), IO4 (io), IO5 (io), IO6 (io), IO7 (io)

## IOPAD16
designator U?
Multiple-Input/Output Pads; FPGAVendor: Xilinx; Published: 15-Sep-2003; Publisher: Altium Limited; HelpURL: http://toolbox.xilinx.com/docsan/xilinx7/books/docs/lib/lib.pdf
pins: IO0 (io), IO1 (io), IO2 (io), IO3 (io), IO4 (io), IO5 (io), IO6 (io), IO7 (io), IO8 (io), IO9 (io), IO10 (io), IO11 (io), IO12 (io), IO13 (io), IO14 (io), IO15 (io)

## IPAD
designator U?
Single-Input Pad; FPGAVendor: Xilinx; Published: 15-Sep-2003; Publisher: Altium Limited; HelpURL: http://toolbox.xilinx.com/docsan/xilinx7/books/docs/lib/lib.pdf
pins: I (out)

## IPAD4
designator U?
Multiple-Input Pads; FPGAVendor: Xilinx; Published: 15-Sep-2003; Publisher: Altium Limited; HelpURL: http://toolbox.xilinx.com/docsan/xilinx7/books/docs/lib/lib.pdf
pins: I0 (out), I1 (out), I2 (out), I3 (out)

## IPAD8
designator U?
Multiple-Input Pads; FPGAVendor: Xilinx; Published: 15-Sep-2003; Publisher: Altium Limited; HelpURL: http://toolbox.xilinx.com/docsan/xilinx7/books/docs/lib/lib.pdf
pins: I0 (out), I1 (out), I2 (out), I3 (out), I4 (out), I5 (out), I6 (out), I7 (out)

## IPAD16
designator U?
Multiple-Input Pads; FPGAVendor: Xilinx; Published: 15-Sep-2003; Publisher: Altium Limited; HelpURL: http://toolbox.xilinx.com/docsan/xilinx7/books/docs/lib/lib.pdf
pins: I0 (out), I1 (out), I2 (out), I3 (out), I4 (out), I5 (out), I6 (out), I7 (out), I8 (out), I9 (out), I10 (out), I11 (out), I12 (out), I13 (out), I14 (out), I15 (out)

## JTAGPPC
designator U?
JTAG Primitive for the Power PC; FPGAVendor: Xilinx; Note: Not supported for Virtex-II. Supported for Virtex-II Pro and Virtex-II Pro X only.; Published: 15-Sep-2003; Publisher: Altium Limited; HelpURL: http://toolbox.xilinx.com/docsan/xilinx7/books/docs/lib/lib.pdf
pins: TCK (out), TDIPPC (out), TDOPPC (in), TDOTSPPC (in), TMS (out)

## KEEPER
designator U?
KEEPER Symbol; FPGAVendor: Xilinx; Published: 15-Sep-2003; Publisher: Altium Limited; HelpURL: http://toolbox.xilinx.com/docsan/xilinx7/books/docs/lib/lib.pdf
pins: O (io)

## LD
designator U?
Transparent Data Latch; FPGAVendor: Xilinx; Published: 15-Sep-2003; Publisher: Altium Limited; HelpURL: http://toolbox.xilinx.com/docsan/xilinx7/books/docs/lib/lib.pdf
pins: D (in), G (in), Q (out)

## LD4
designator U?
Multiple Transparent Data Latches; FPGAVendor: Xilinx; Published: 15-Sep-2003; Publisher: Altium Limited; HelpURL: http://toolbox.xilinx.com/docsan/xilinx7/books/docs/lib/lib.pdf
pins: D0 (in), D1 (in), D2 (in), D3 (in), G (in), Q0 (out), Q1 (out), Q2 (out), Q3 (out)

## LD4CE
designator U?
Transparent Data Latch with Asynchronous Clear and Gate Enable; FPGAVendor: Xilinx; Published: 15-Sep-2003; Publisher: Altium Limited; HelpURL: http://toolbox.xilinx.com/docsan/xilinx7/books/docs/lib/lib.pdf
pins: CLR (in), D0 (in), D1 (in), D2 (in), D3 (in), G (in), GE (in), Q0 (out), Q1 (out), Q2 (out), Q3 (out)

## LD8
designator U?
Multiple Transparent Data Latches; FPGAVendor: Xilinx; Published: 15-Sep-2003; Publisher: Altium Limited; HelpURL: http://toolbox.xilinx.com/docsan/xilinx7/books/docs/lib/lib.pdf
pins: D[7..0] (in), G (in), Q[7..0] (out)

## LD8CE
designator U?
Transparent Data Latch with Asynchronous Clear and Gate Enable; FPGAVendor: Xilinx; Published: 15-Sep-2003; Publisher: Altium Limited; HelpURL: http://toolbox.xilinx.com/docsan/xilinx7/books/docs/lib/lib.pdf
pins: CLR (in), D[7..0] (in), G (in), GE (in), Q[7..0] (out)

## LD16
designator U?
Multiple Transparent Data Latches; FPGAVendor: Xilinx; Published: 15-Sep-2003; Publisher: Altium Limited; HelpURL: http://toolbox.xilinx.com/docsan/xilinx7/books/docs/lib/lib.pdf
pins: D[15..0] (in), G (in), Q[15..0] (out)

## LD16CE
designator U?
Transparent Data Latch with Asynchronous Clear and Gate Enable; FPGAVendor: Xilinx; Published: 15-Sep-2003; Publisher: Altium Limited; HelpURL: http://toolbox.xilinx.com/docsan/xilinx7/books/docs/lib/lib.pdf
pins: CLR (in), D[15..0] (in), G (in), GE (in), Q[15..0] (out)

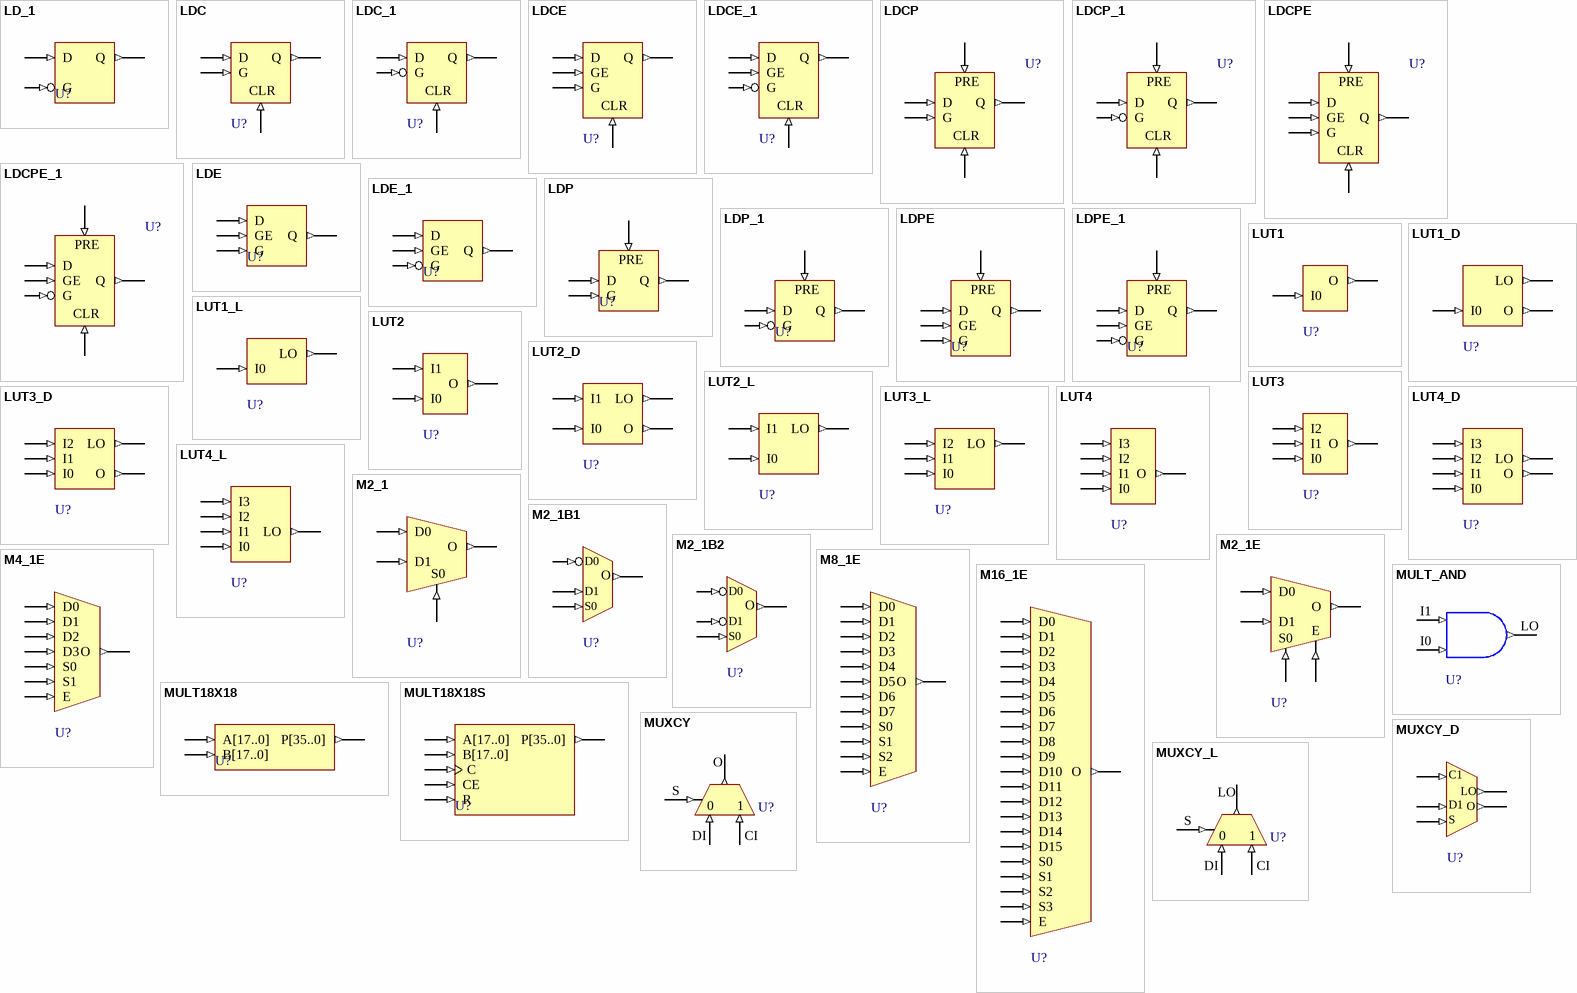
[diagram p21: symbols LD_1 to MUXCY_L]

## LD_1
designator U?
Transparent Data Latch with Inverted Gate; FPGAVendor: Xilinx; Published: 15-Sep-2003; Publisher: Altium Limited; HelpURL: http://toolbox.xilinx.com/docsan/xilinx7/books/docs/lib/lib.pdf
pins: D (in), G (in), Q (out)

## LDC
designator U?
Transparent Data Latch with Asynchronous Clear; FPGAVendor: Xilinx; Published: 15-Sep-2003; Publisher: Altium Limited; HelpURL: http://toolbox.xilinx.com/docsan/xilinx7/books/docs/lib/lib.pdf
pins: CLR (in), D (in), G (in), Q (out)

## LDC_1
designator U?
Transparent Data Latch with Asynchronous Clear and Inverted Gate; FPGAVendor: Xilinx; Published: 15-Sep-2003; Publisher: Altium Limited; HelpURL: http://toolbox.xilinx.com/docsan/xilinx7/books/docs/lib/lib.pdf
pins: CLR (in), D (in), G (in), Q (out)

## LDCE
designator U?
Transparent Data Latch wth Asynchronous Clear and Gate Enable; FPGAVendor: Xilinx; Published: 15-Sep-2003; Publisher: Altium Limited; HelpURL: http://toolbox.xilinx.com/docsan/xilinx7/books/docs/lib/lib.pdf
pins: CLR (in), D (in), G (in), GE (in), Q (out)

## LDCE_1
designator U?
Transparent Data Latch with Asynchronous Clear, Gate Enable,  and Inverted Gate; FPGAVendor: Xilinx; Published: 15-Sep-2003; Publisher: Altium Limited; HelpURL: http://toolbox.xilinx.com/docsan/xilinx7/books/docs/lib/lib.pdf
pins: CLR (in), D (in), G (in), GE (in), Q (out)

## LDCP
designator U?
Transparent Data Latch with Asynchronous Clear and Preset; FPGAVendor: Xilinx; Published: 15-Sep-2003; Publisher: Altium Limited; HelpURL: http://toolbox.xilinx.com/docsan/xilinx7/books/docs/lib/lib.pdf
pins: CLR (in), D (in), G (in), PRE (in), Q (out)

## LDCP_1
designator U?
Transparent Data Latch with Asynchronous Clear and Preset and Inverted Gate; FPGAVendor: Xilinx; Published: 15-Sep-2003; Publisher: Altium Limited; HelpURL: http://toolbox.xilinx.com/docsan/xilinx7/books/docs/lib/lib.pdf
pins: CLR (in), D (in), G (in), PRE (in), Q (out)

## LDCPE
designator U?
Transparent Data Latch with Asynchronous Clear and Preset and Gate Enable; FPGAVendor: Xilinx; Published: 15-Sep-2003; Publisher: Altium Limited; HelpURL: http://toolbox.xilinx.com/docsan/xilinx7/books/docs/lib/lib.pdf
pins: CLR (in), D (in), G (in), GE (in), PRE (in), Q (out)

## LDCPE_1
designator U?
Transparent Data Latch with Asynchronous Clear and Preset, Gate Enable, and Inverted Gate; FPGAVendor: Xilinx; Published: 15-Sep-2003; Publisher: Altium Limited; HelpURL: http://toolbox.xilinx.com/docsan/xilinx7/books/docs/lib/lib.pdf
pins: CLR (in), D (in), G (in), GE (in), PRE (in), Q (out)

## LDE
designator U?
Transparent Data Latch with Gate Enable; FPGAVendor: Xilinx; Published: 15-Sep-2003; Publisher: Altium Limited; HelpURL: http://toolbox.xilinx.com/docsan/xilinx7/books/docs/lib/lib.pdf
pins: D (in), G (in), GE (in), Q (out)

## LDE_1
designator U?
Transparent Data Latch with Gate Enable and Inverted Gate; FPGAVendor: Xilinx; Published: 15-Sep-2003; Publisher: Altium Limited; HelpURL: http://toolbox.xilinx.com/docsan/xilinx7/books/docs/lib/lib.pdf
pins: D (in), G (in), GE (in), Q (out)

## LDP
designator U?
Transparent Data Latch with Asynchronous Preset; FPGAVendor: Xilinx; Published: 15-Sep-2003; Publisher: Altium Limited; HelpURL: http://toolbox.xilinx.com/docsan/xilinx7/books/docs/lib/lib.pdf
pins: D (in), G (in), PRE (in), Q (out)

## LDP_1
designator U?
Transparent Data Latch with Asynchronous Preset and Inverted Gate; FPGAVendor: Xilinx; Published: 15-Sep-2003; Publisher: Altium Limited; HelpURL: http://toolbox.xilinx.com/docsan/xilinx7/books/docs/lib/lib.pdf
pins: D (in), G (in), PRE (in), Q (out)

## LDPE
designator U?
Transparent Data Latch with Asynchronous Preset and Gate Enable; FPGAVendor: Xilinx; Published: 15-Sep-2003; Publisher: Altium Limited; HelpURL: http://toolbox.xilinx.com/docsan/xilinx7/books/docs/lib/lib.pdf
pins: D (in), G (in), GE (in), PRE (in), Q (out)

## LDPE_1
designator U?
Transparent Data Latch with Asynchronous Preset, Gate Enable, and Inverted Gate; FPGAVendor: Xilinx; Published: 15-Sep-2003; Publisher: Altium Limited; HelpURL: http://toolbox.xilinx.com/docsan/xilinx7/books/docs/lib/lib.pdf
pins: D (in), G (in), GE (in), PRE (in), Q (out)

## LUT1
designator U?
1-Bit Look-Up-Table with General Output; FPGAVendor: Xilinx; Published: 15-Sep-2003; Publisher: Altium Limited; HelpURL: http://toolbox.xilinx.com/docsan/xilinx7/books/docs/lib/lib.pdf
pins: I0 (in), O (out)

## LUT1_D
designator U?
1-Bit Look-Up-Table with Dual Output; FPGAVendor: Xilinx; Published: 15-Sep-2003; Publisher: Altium Limited; HelpURL: http://toolbox.xilinx.com/docsan/xilinx7/books/docs/lib/lib.pdf
pins: I0 (in), LO (out), O (out)